# Altium schematic symbol library NTC_Resistor.SchLib: 1 symbol
Pins are listed as number, name and electrical type; pins without a type are passive.

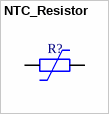
[diagram p0: symbol NTC_Resistor]

## NTC_Resistor
designator R?
pins: 1, 2